# EAGLE library part ARDUINO_UNO_SHIELD (library E14_Arduino_revB)
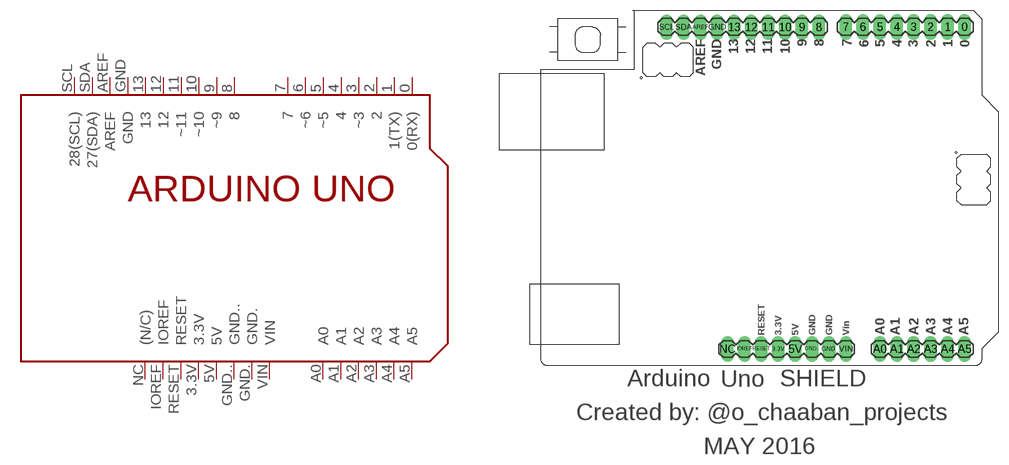
[diagram p9: symbol with the pads of ARDUINO_UNO_SHIELD; footprint ARDUINO_UNO_SHIELD]

Designator prefix -

## ARDUINO_UNO_SHIELD"  [ARDUINO_UNO_SHIELD]
0  0(RX)
1  1(TX)
2  2
3  ~3
3.3V  3.3V
4  4
5  ~5
5V  5V
6  ~6
7  7
8  8
9  ~9
10  ~10
11  ~11
12  12
13  13
A0  A0
A1  A1
A2  A2
A3  A3
A4  A4
A5  A5
AREF  AREF
GND  GND
GND.  GND.
GND..  GND..
IOREF  IOREF
NC  (N/C)
RESET  RESET
SCL  28(SCL)
SDA  27(SDA)
VIN  VIN

## Footprint ARDUINO_UNO_SHIELD (pad centres in mm)
drill 1.1 pad 1.93 long: 0 27.94,24.13; 1 25.4,24.13; 2 22.86,24.13; 3 20.32,24.13; 3.3V 0,-24.13; 4 17.78,24.13; 5 15.24,24.13; 5V 2.54,-24.13; 6 12.7,24.13; 7 10.16,24.13; 8 6.109,24.095; 9 3.569,24.095; 10 1.029,24.095; 11 -1.511,24.095; 12 -4.051,24.095; 13 -6.591,24.095; A0 15.24,-24.13; A1 17.78,-24.13; A2 20.32,-24.13; A3 22.86,-24.13; A4 25.4,-24.13; A5 27.94,-24.13; AREF -11.671,24.095; GND -9.131,24.095; GND. 7.62,-24.13; GND.. 5.08,-24.13; IOREF -5.08,-24.13; NC -7.62,-24.13; RESET -2.54,-24.13; SCL -16.751,24.095; SDA -14.211,24.095; VIN 10.16,-24.13